# Altium schematic symbol library LIPO-CHARGING_8.4V_10DFN.SchLib: 1 symbol
Pins are listed as number, name and electrical type; pins without a type are passive.

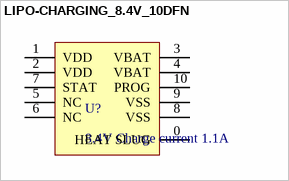
[diagram p0: symbol LIPO-CHARGING_8.4V_10DFN]

## LIPO-CHARGING_8.4V_10DFN
designator U?, comment 8.4V Charge current 1.1A
IC BATT CHG LI-ION 2CELL 10DFN; Manufacturer: Microchip; Manufacturer Part Number: MCP73213-A6SI/MF; Number of Cells: 2; Max Supply Voltage: 13V; Fault Protection: Over Voltage; RoHS: No; Category: Battery Management; Stock 1: 347; Pricing 1: 1=1.88000 (USD); Case/Package: DFN; Min Operating Temperature: -40°C; Max Operating Temperature: 85°C; Packaging: Rail/Tube; Max Charge Current: 1.1A; Battery Pack Voltage: 8.4V; ComponentLink1URL: http://www.microchip.com/mymicrochip/filehandler.aspx?ddocname=en026002&src-supplier=Digi-Key; ComponentLink1Description: http://www.microchip.com/mymicrochip/filehandler.aspx?ddocname=en026002&src-supplier=Digi-Key; Supplier 1: DigiKey; Supplier Part Number 1: MCP73213-A6SI/MF-ND
footprint LIPO-CHARGING_8.4V_10DFN (dual lip charging IC 8.4V 10DFN)
pins: 0 HEAT SLUG, 1 VDD, 2 VDD, 3 VBAT, 4 VBAT, 5 NC, 6 NC, 7 STAT, 8 VSS, 9 VSS, 10 PROG